# Altium schematic symbol library GateDriver.SchLib: 1 symbol
Pins are listed as number, name and electrical type; pins without a type are passive.

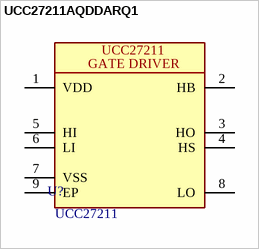
[diagram p0: symbol UCC27211AQDDARQ1]

## UCC27211AQDDARQ1
designator U?  value UCC27211
IC GATE DRVR HALF-BRIDGE 8SOPWR; Manufacturer 1: Texas Instruments; Manufacturer Part Number 1: UCC27211AQDDARQ1
footprint UCC27211AQDDARQ1
pins: 1 VDD, 2 HB, 3 HO, 4 HS, 5 HI, 6 LI, 7 VSS, 8 LO, 9 EP
text: GATE DRIVER